# Altium schematic symbol library WR-WTB_2.54mm.SchLib: 34 symbols
Pins are listed as number, name and electrical type; pins without a type are passive.

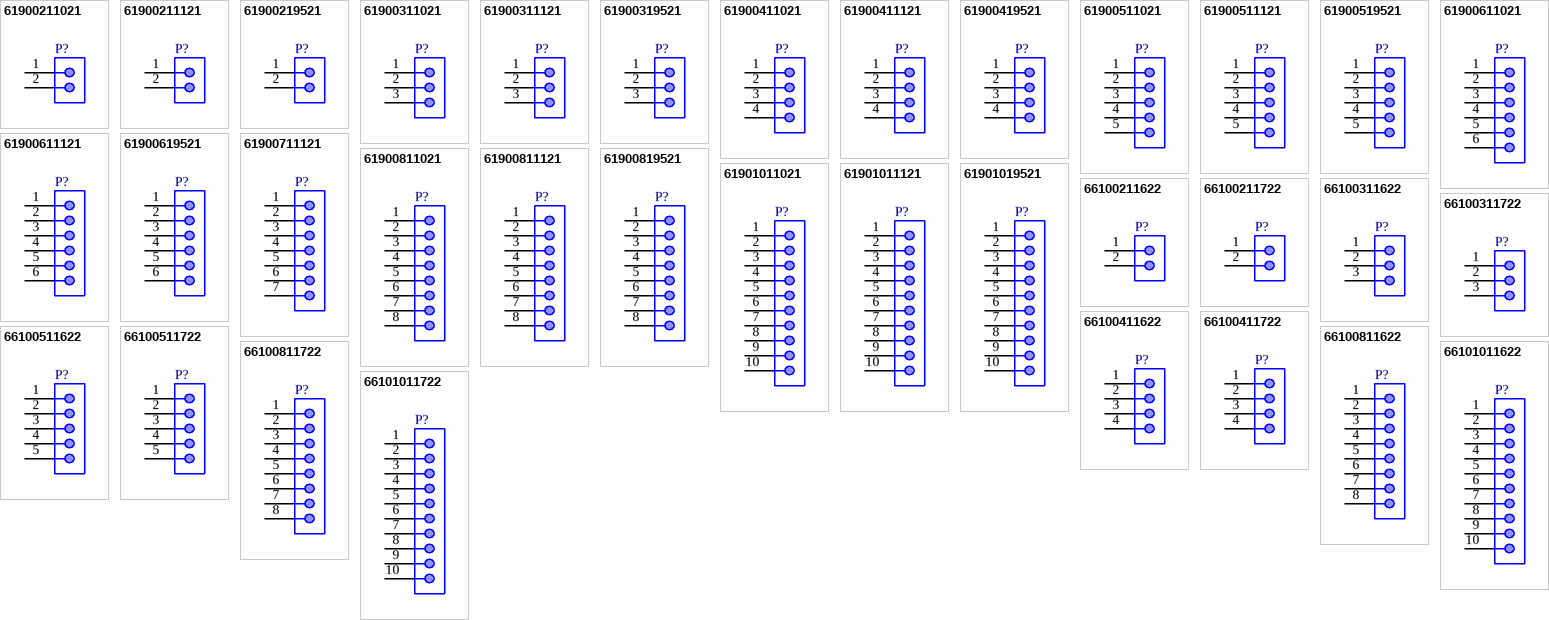
[diagram p0: symbols 61900211021 to 66101011722]

## 61900211021
designator P?
WR-WTB THT Male Left Angled Bottom Locking Header, pitch 2.54mm, 2p; Part Number: 61900211021; Pin Number: 2; Contact Resistance: 20mOhm; Rated Current: 3A; Withstanding Voltage: 1000VAC; Working Voltage: 250VAC; ComponentLink1Description: Manufacturer; ComponentLink1URL: http://www.we-online.de; ComponentLink2Description: Datasheet; ComponentLink2URL: https://www.we-online.com/catalog/datasheet/61900211021.pdf; Pitch: 2.54mm; Published Date: January 2020; Publisher: Wurth Elektronik; Mounting Technology: THT; Packaging: Bag; Operating Temperature: -40 to +105degC; Gender: Male; Type: Right Angled Bottom Locking
footprint 61900211021
pins: 1, 2

## 61900211121
designator P?
WR-WTB THT Male Vertical Locking Header, pitch 2.54mm, 2p; Part Number: 61900211121; Pin Number: 2; Contact Resistance: 20mOhm; Rated Current: 3A; Withstanding Voltage: 1000VAC; Working Voltage: 250VAC; ComponentLink1Description: Manufacturer; ComponentLink1URL: http://www.we-online.de; ComponentLink2Description: Datasheet; ComponentLink2URL: https://www.we-online.com/catalog/datasheet/61900211121.pdf; Pitch: 2.54mm; Published Date: January 2020; Publisher: Wurth Elektronik; Mounting Technology: THT; Packaging: Bag; Operating Temperature: -40 to +105degC; Gender: Male; Type: Vertical
footprint 61900211121
pins: 1, 2

## 61900219521
designator P?
WR-WTB THT Male Right Angled Top Locking Header, pitch 2.54mm, 2p; Part Number: 61900219521; Pin Number: 2; Contact Resistance: 20mOhm; Rated Current: 3A; Withstanding Voltage: 1000VAC; Working Voltage: 250VAC; ComponentLink1Description: Manufacturer; ComponentLink1URL: http://www.we-online.de; ComponentLink2Description: Datasheet; ComponentLink2URL: https://www.we-online.com/catalog/datasheet/61900219521.pdf; Pitch: 2.54mm; Published Date: January 2020; Publisher: Wurth Elektronik; Mounting Technology: THT; Packaging: Bag; Operating Temperature: -40 to +105degC; Gender: Male; Type: Right Angled Top Locking
footprint 61900219521
pins: 1, 2

## 61900311021
designator P?
WR-WTB THT Male Left Angled Bottom Locking Header, pitch 2.54mm, 3p; Part Number: 61900311021; Pin Number: 3; Contact Resistance: 20mOhm; Rated Current: 3A; Withstanding Voltage: 1000VAC; Working Voltage: 250VAC; ComponentLink1Description: Manufacturer; ComponentLink1URL: http://www.we-online.de; ComponentLink2Description: Datasheet; ComponentLink2URL: https://www.we-online.com/catalog/datasheet/61900311021.pdf; Pitch: 2.54mm; Published Date: January 2020; Publisher: Wurth Elektronik; Mounting Technology: THT; Packaging: Bag; Operating Temperature: -40 to +105degC; Gender: Male; Type: Right Angled Bottom Locking
footprint 61900311021
pins: 1, 2, 3

## 61900311121
designator P?
WR-WTB THT Male Vertical Locking Header, pitch 2.54mm, 3p; Part Number: 61900311121; Pin Number: 3; Contact Resistance: 20mOhm; Rated Current: 3A; Withstanding Voltage: 1000VAC; Working Voltage: 250VAC; ComponentLink1Description: Manufacturer; ComponentLink1URL: http://www.we-online.de; ComponentLink2Description: Datasheet; ComponentLink2URL: https://www.we-online.com/catalog/datasheet/61900311121.pdf; Pitch: 2.54mm; Published Date: January 2020; Publisher: Wurth Elektronik; Mounting Technology: THT; Packaging: Bag; Operating Temperature: -40 to +105degC; Gender: Male; Type: Vertical
footprint 61900311121
pins: 1, 2, 3

## 61900319521
designator P?
WR-WTB THT Male Right Angled Top Locking Header, pitch 2.54mm, 3p; Part Number: 61900319521; Pin Number: 3; Contact Resistance: 20mOhm; Rated Current: 3A; Withstanding Voltage: 1000VAC; Working Voltage: 250VAC; ComponentLink1Description: Manufacturer; ComponentLink1URL: http://www.we-online.de; ComponentLink2Description: Datasheet; ComponentLink2URL: https://www.we-online.com/catalog/datasheet/61900319521.pdf; Pitch: 2.54mm; Published Date: January 2020; Publisher: Wurth Elektronik; Mounting Technology: THT; Packaging: Bag; Operating Temperature: -40 to +105degC; Gender: Male; Type: Right Angled Top Locking
footprint 61900319521
pins: 1, 2, 3

## 61900411021
designator P?
WR-WTB THT Male Left Angled Bottom Locking Header, pitch 2.54mm, 4p; Part Number: 61900411021; Pin Number: 4; Contact Resistance: 20mOhm; Rated Current: 3A; Withstanding Voltage: 1000VAC; Working Voltage: 250VAC; ComponentLink1Description: Manufacturer; ComponentLink1URL: http://www.we-online.de; ComponentLink2Description: Datasheet; ComponentLink2URL: https://www.we-online.com/catalog/datasheet/61900411021.pdf; Pitch: 2.54mm; Published Date: January 2020; Publisher: Wurth Elektronik; Mounting Technology: THT; Packaging: Bag; Operating Temperature: -40 to +105degC; Gender: Male; Type: Right Angled Bottom Locking
footprint 61900411021
pins: 1, 2, 3, 4

## 61900411121
designator P?
WR-WTB THT Male Vertical Locking Header, pitch 2.54mm, 4p; Part Number: 61900411121; Pin Number: 4; Contact Resistance: 20mOhm; Rated Current: 3A; Withstanding Voltage: 1000VAC; Working Voltage: 250VAC; ComponentLink1Description: Manufacturer; ComponentLink1URL: http://www.we-online.de; ComponentLink2Description: Datasheet; ComponentLink2URL: https://www.we-online.com/catalog/datasheet/61900411121.pdf; Pitch: 2.54mm; Published Date: January 2020; Publisher: Wurth Elektronik; Mounting Technology: THT; Packaging: Bag; Operating Temperature: -40 to +105degC; Gender: Male; Type: Vertical
footprint 61900411121
pins: 1, 2, 3, 4

## 61900419521
designator P?
WR-WTB THT Male Right Angled Top Locking Header, pitch 2.54mm, 4p; Part Number: 61900419521; Pin Number: 4; Contact Resistance: 20mOhm; Rated Current: 3A; Withstanding Voltage: 1000VAC; Working Voltage: 250VAC; ComponentLink1Description: Manufacturer; ComponentLink1URL: http://www.we-online.de; ComponentLink2Description: Datasheet; ComponentLink2URL: https://www.we-online.com/catalog/datasheet/61900419521.pdf; Pitch: 2.54mm; Published Date: January 2020; Publisher: Wurth Elektronik; Mounting Technology: THT; Packaging: Bag; Operating Temperature: -40 to +105degC; Gender: Male; Type: Right Angled Top Locking
footprint 61900419521
pins: 1, 2, 3, 4

## 61900511021
designator P?
WR-WTB THT Male Left Angled Bottom Locking Header, pitch 2.54mm, 5p; Part Number: 61900511021; Pin Number: 5; Contact Resistance: 20mOhm; Rated Current: 3A; Withstanding Voltage: 1000VAC; Working Voltage: 250VAC; ComponentLink1Description: Manufacturer; ComponentLink1URL: http://www.we-online.de; ComponentLink2Description: Datasheet; ComponentLink2URL: https://www.we-online.com/catalog/datasheet/61900511021.pdf; Pitch: 2.54mm; Published Date: January 2020; Publisher: Wurth Elektronik; Mounting Technology: THT; Packaging: Bag; Operating Temperature: -40 to +105degC; Gender: Male; Type: Right Angled Bottom Locking
footprint 61900511021
pins: 1, 2, 3, 4, 5

## 61900511121
designator P?
WR-WTB THT Male Vertical Locking Header, pitch 2.54mm, 5p; Part Number: 61900511121; Pin Number: 5; Contact Resistance: 20mOhm; Rated Current: 3A; Withstanding Voltage: 1000VAC; Working Voltage: 250VAC; ComponentLink1Description: Manufacturer; ComponentLink1URL: http://www.we-online.de; ComponentLink2Description: Datasheet; ComponentLink2URL: https://www.we-online.com/catalog/datasheet/61900511121.pdf; Pitch: 2.54mm; Published Date: January 2020; Publisher: Wurth Elektronik; Mounting Technology: THT; Packaging: Bag; Operating Temperature: -40 to +105degC; Gender: Male; Type: Vertical
footprint 61900511121
pins: 1, 2, 3, 4, 5

## 61900519521
designator P?
WR-WTB THT Male Right Angled Top Locking Header, pitch 2.54mm, 5p; Part Number: 61900519521; Pin Number: 5; Contact Resistance: 20mOhm; Rated Current: 3A; Withstanding Voltage: 1000VAC; Working Voltage: 250VAC; ComponentLink1Description: Manufacturer; ComponentLink1URL: http://www.we-online.de; ComponentLink2Description: Datasheet; ComponentLink2URL: https://www.we-online.com/catalog/datasheet/61900519521.pdf; Pitch: 2.54mm; Published Date: January 2020; Publisher: Wurth Elektronik; Mounting Technology: THT; Packaging: Bag; Operating Temperature: -40 to +105degC; Gender: Male; Type: Right Angled Top Locking
footprint 61900519521
pins: 1, 2, 3, 4, 5

## 61900611021
designator P?
WR-WTB THT Male Left Angled Bottom Locking Header, pitch 2.54mm, 6p; Part Number: 61900611021; Pin Number: 6; Contact Resistance: 20mOhm; Rated Current: 3A; Withstanding Voltage: 1000VAC; Working Voltage: 250VAC; ComponentLink1Description: Manufacturer; ComponentLink1URL: http://www.we-online.de; ComponentLink2Description: Datasheet; ComponentLink2URL: https://www.we-online.com/catalog/datasheet/61900611021.pdf; Pitch: 2.54mm; Published Date: January 2020; Publisher: Wurth Elektronik; Mounting Technology: THT; Packaging: Bag; Operating Temperature: -40 to +105degC; Gender: Male; Type: Right Angled Bottom Locking
footprint 61900611021
pins: 1, 2, 3, 4, 5, 6

## 61900611121
designator P?
WR-WTB THT Male Vertical Locking Header, pitch 2.54mm, 6p; Part Number: 61900611121; Pin Number: 6; Contact Resistance: 20mOhm; Rated Current: 3A; Withstanding Voltage: 1000VAC; Working Voltage: 250VAC; ComponentLink1Description: Manufacturer; ComponentLink1URL: http://www.we-online.de; ComponentLink2Description: Datasheet; ComponentLink2URL: https://www.we-online.com/catalog/datasheet/61900611121.pdf; Pitch: 2.54mm; Published Date: January 2020; Publisher: Wurth Elektronik; Mounting Technology: THT; Packaging: Bag; Operating Temperature: -40 to +105degC; Gender: Male; Type: Vertical
footprint 61900611121
pins: 1, 2, 3, 4, 5, 6

## 61900619521
designator P?
WR-WTB THT Male Right Angled Top Locking Header, pitch 2.54mm, 6p; Part Number: 61900619521; Pin Number: 6; Contact Resistance: 20mOhm; Rated Current: 3A; Withstanding Voltage: 1000VAC; Working Voltage: 250VAC; ComponentLink1Description: Manufacturer; ComponentLink1URL: http://www.we-online.de; ComponentLink2Description: Datasheet; ComponentLink2URL: https://www.we-online.com/catalog/datasheet/61900619521.pdf; Pitch: 2.54mm; Published Date: January 2020; Publisher: Wurth Elektronik; Mounting Technology: THT; Packaging: Bag; Operating Temperature: -40 to +105degC; Gender: Male; Type: Right Angled Top Locking
footprint 61900619521
pins: 1, 2, 3, 4, 5, 6

## 61900711121
designator P?
WR-WTB THT Male Vertical Locking Header, pitch 2.54mm, 7p; Part Number: 61900711121; Pin Number: 7; Contact Resistance: 20mOhm; Rated Current: 3A; Withstanding Voltage: 1000VAC; Working Voltage: 250VAC; ComponentLink1Description: Manufacturer; ComponentLink1URL: http://www.we-online.de; ComponentLink2Description: Datasheet; ComponentLink2URL: https://www.we-online.com/catalog/datasheet/61900711121.pdf; Pitch: 2.54mm; Published Date: January 2020; Publisher: Wurth Elektronik; Mounting Technology: THT; Packaging: Bag; Operating Temperature: -40 to +105degC; Gender: Male; Type: Vertical
footprint 61900711121
pins: 1, 2, 3, 4, 5, 6, 7

## 61900811021
designator P?
WR-WTB THT Male Left Angled Bottom Locking Header, pitch 2.54mm, 8p; Part Number: 61900811021; Pin Number: 8; Contact Resistance: 20mOhm; Rated Current: 3A; Withstanding Voltage: 1000VAC; Working Voltage: 250VAC; ComponentLink1Description: Manufacturer; ComponentLink1URL: http://www.we-online.de; ComponentLink2Description: Datasheet; ComponentLink2URL: https://www.we-online.com/catalog/datasheet/61900811021.pdf; Pitch: 2.54mm; Published Date: January 2020; Publisher: Wurth Elektronik; Mounting Technology: THT; Packaging: Bag; Operating Temperature: -40 to +105degC; Gender: Male; Type: Right Angled Bottom Locking
footprint 61900811021
pins: 1, 2, 3, 4, 5, 6, 7, 8

## 61900811121
designator P?
WR-WTB THT Male Vertical Locking Header, pitch 2.54mm, 8p; Part Number: 61900811121; Pin Number: 8; Contact Resistance: 20mOhm; Rated Current: 3A; Withstanding Voltage: 1000VAC; Working Voltage: 250VAC; ComponentLink1Description: Manufacturer; ComponentLink1URL: http://www.we-online.de; ComponentLink2Description: Datasheet; ComponentLink2URL: https://www.we-online.com/catalog/datasheet/61900811121.pdf; Pitch: 2.54mm; Published Date: January 2020; Publisher: Wurth Elektronik; Mounting Technology: THT; Packaging: Bag; Operating Temperature: -40 to +105degC; Gender: Male; Type: Vertical
footprint 61900811121
pins: 1, 2, 3, 4, 5, 6, 7, 8

## 61900819521
designator P?
WR-WTB THT Male Right Angled Top Locking Header, pitch 2.54mm, 8p; Part Number: 61900819521; Pin Number: 8; Contact Resistance: 20mOhm; Rated Current: 3A; Withstanding Voltage: 1000VAC; Working Voltage: 250VAC; ComponentLink1Description: Manufacturer; ComponentLink1URL: http://www.we-online.de; ComponentLink2Description: Datasheet; ComponentLink2URL: https://www.we-online.com/catalog/datasheet/61900819521.pdf; Pitch: 2.54mm; Published Date: January 2020; Publisher: Wurth Elektronik; Mounting Technology: THT; Packaging: Bag; Operating Temperature: -40 to +105degC; Gender: Male; Type: Right Angled Top Locking
footprint 61900819521
pins: 1, 2, 3, 4, 5, 6, 7, 8

## 61901011021
designator P?
WR-WTB THT Male Left Angled Bottom Locking Header, pitch 2.54mm, 10p; Part Number: 61901011021; Pin Number: 10; Contact Resistance: 20mOhm; Rated Current: 3A; Withstanding Voltage: 1000VAC; Working Voltage: 250VAC; ComponentLink1Description: Manufacturer; ComponentLink1URL: http://www.we-online.de; ComponentLink2Description: Datasheet; ComponentLink2URL: https://www.we-online.com/catalog/datasheet/61901011021.pdf; Pitch: 2.54mm; Published Date: January 2020; Publisher: Wurth Elektronik; Mounting Technology: THT; Packaging: Bag; Operating Temperature: -40 to +105degC; Gender: Male; Type: Right Angled Bottom Locking
footprint 61901011021
pins: 1, 2, 3, 4, 5, 6, 7, 8, 9, 10

## 61901011121
designator P?
WR-WTB THT Male Vertical Locking Header, pitch 2.54mm, 10p; Part Number: 61901011121; Pin Number: 10; Contact Resistance: 20mOhm; Rated Current: 3A; Withstanding Voltage: 1000VAC; Working Voltage: 250VAC; ComponentLink1Description: Manufacturer; ComponentLink1URL: http://www.we-online.de; ComponentLink2Description: Datasheet; ComponentLink2URL: https://www.we-online.com/catalog/datasheet/61901011121.pdf; Pitch: 2.54mm; Published Date: January 2020; Publisher: Wurth Elektronik; Mounting Technology: THT; Packaging: Bag; Operating Temperature: -40 to +105degC; Gender: Male; Type: Vertical
footprint 61901011121
pins: 1, 2, 3, 4, 5, 6, 7, 8, 9, 10

## 61901019521
designator P?
WR-WTB THT Male Right Angled Top Locking Header, pitch 2.54mm, 10p; Part Number: 61901019521; Pin Number: 10; Contact Resistance: 20mOhm; Rated Current: 3A; Withstanding Voltage: 1000VAC; Working Voltage: 250VAC; ComponentLink1Description: Manufacturer; ComponentLink1URL: http://www.we-online.de; ComponentLink2Description: Datasheet; ComponentLink2URL: https://www.we-online.com/catalog/datasheet/61901019521.pdf; Pitch: 2.54mm; Published Date: January 2020; Publisher: Wurth Elektronik; Mounting Technology: THT; Packaging: Bag; Operating Temperature: -40 to +105degC; Gender: Male; Type: Right Angled Top Locking
footprint 61901019521
pins: 1, 2, 3, 4, 5, 6, 7, 8, 9, 10

## 66100211622
designator P?
WR-WTB Male Vertical Shrouded Header, pitch 2.54mm, 2p; Part Number: 66100211622; Pin Number: 2; Contact Resistance: 20mOhm; Rated Current: 3A; Withstanding Voltage: 500VAC; Working Voltage: 50VAC; ComponentLink1Description: Manufacturer; ComponentLink1URL: http://www.we-online.de; ComponentLink2Description: Datasheet; ComponentLink2URL: https://www.we-online.com/catalog/datasheet/66100211622.pdf; Pitch: 2.54mm; Published Date: January 2020; Publisher: Wurth Elektronik; Mounting Technology: THT; Packaging: Box; Operating Temperature: -40 to +125degC; Gender: Male; Type: Vertical
footprint 66100211622
pins: 1, 2

## 66100211722
designator P?
WR-WTB THT Male Right Angled Shrouded Header, pitch 2.54mm, 2p; Part Number: 66100211722; Pin Number: 2; Contact Resistance: 20mOhm; Rated Current: 3A; Withstanding Voltage: 500VAC; Working Voltage: 50VAC; ComponentLink1Description: Manufacturer; ComponentLink1URL: http://www.we-online.de; ComponentLink2Description: Datasheet; ComponentLink2URL: https://www.we-online.com/catalog/datasheet/66100211722.pdf; Pitch: 2.54mm; Published Date: January 2020; Publisher: Wurth Elektronik; Mounting Technology: THT; Packaging: Box; Operating Temperature: -40 to +125degC; Gender: Male; Type: Right Angled
footprint 66100211722
pins: 1, 2

## 66100311622
designator P?
WR-WTB Male Vertical Shrouded Header, pitch 2.54mm, 3p; Part Number: 66100311622; Pin Number: 3; Contact Resistance: 20mOhm; Rated Current: 3A; Withstanding Voltage: 500VAC; Working Voltage: 50VAC; ComponentLink1Description: Manufacturer; ComponentLink1URL: http://www.we-online.de; ComponentLink2Description: Datasheet; ComponentLink2URL: https://www.we-online.com/catalog/datasheet/66100311622.pdf; Pitch: 2.54mm; Published Date: January 2020; Publisher: Wurth Elektronik; Mounting Technology: THT; Packaging: Box; Operating Temperature: -40 to +125degC; Gender: Male; Type: Vertical
footprint 66100311622
pins: 1, 2, 3

## 66100311722
designator P?
WR-WTB THT Male Right Angled Shrouded Header, pitch 2.54mm, 3p; Part Number: 66100311722; Pin Number: 3; Contact Resistance: 20mOhm; Rated Current: 3A; Withstanding Voltage: 500VAC; Working Voltage: 50VAC; ComponentLink1Description: Manufacturer; ComponentLink1URL: http://www.we-online.de; ComponentLink2Description: Datasheet; ComponentLink2URL: https://www.we-online.com/catalog/datasheet/66100311722.pdf; Pitch: 2.54mm; Published Date: January 2020; Publisher: Wurth Elektronik; Mounting Technology: THT; Packaging: Box; Operating Temperature: -40 to +125degC; Gender: Male; Type: Right Angled
footprint 66100311722
pins: 1, 2, 3

## 66100411622
designator P?
WR-WTB Male Vertical Shrouded Header, pitch 2.54mm, 4p; Part Number: 66100411622; Pin Number: 4; Contact Resistance: 20mOhm; Rated Current: 3A; Withstanding Voltage: 500VAC; Working Voltage: 50VAC; ComponentLink1Description: Manufacturer; ComponentLink1URL: http://www.we-online.de; ComponentLink2Description: Datasheet; ComponentLink2URL: https://www.we-online.com/catalog/datasheet/66100411622.pdf; Pitch: 2.54mm; Published Date: January 2020; Publisher: Wurth Elektronik; Mounting Technology: THT; Packaging: Box; Operating Temperature: -40 to +125degC; Gender: Male; Type: Vertical
footprint 66100411622
pins: 1, 2, 3, 4

## 66100411722
designator P?
WR-WTB THT Male Right Angled Shrouded Header, pitch 2.54mm, 4p; Part Number: 66100411722; Pin Number: 4; Contact Resistance: 20mOhm; Rated Current: 3A; Withstanding Voltage: 500VAC; Working Voltage: 50VAC; ComponentLink1Description: Manufacturer; ComponentLink1URL: http://www.we-online.de; ComponentLink2Description: Datasheet; ComponentLink2URL: https://www.we-online.com/catalog/datasheet/66100411722.pdf; Pitch: 2.54mm; Published Date: January 2020; Publisher: Wurth Elektronik; Mounting Technology: THT; Packaging: Box; Operating Temperature: -40 to +125degC; Gender: Male; Type: Right Angled
footprint 66100411722
pins: 1, 2, 3, 4

## 66100511622
designator P?
WR-WTB Male Vertical Shrouded Header, pitch 2.54mm, 5p; Part Number: 66100511622; Pin Number: 5; Contact Resistance: 20mOhm; Rated Current: 3A; Withstanding Voltage: 500VAC; Working Voltage: 50VAC; ComponentLink1Description: Manufacturer; ComponentLink1URL: http://www.we-online.de; ComponentLink2Description: Datasheet; ComponentLink2URL: https://www.we-online.com/catalog/datasheet/66100511622.pdf; Pitch: 2.54mm; Published Date: January 2020; Publisher: Wurth Elektronik; Mounting Technology: THT; Packaging: Box; Operating Temperature: -40 to +125degC; Gender: Male; Type: Vertical
footprint 66100511622
pins: 1, 2, 3, 4, 5

## 66100511722
designator P?
WR-WTB THT Male Right Angled Shrouded Header, pitch 2.54mm, 5p; Part Number: 66100511722; Pin Number: 5; Contact Resistance: 20mOhm; Rated Current: 3A; Withstanding Voltage: 500VAC; Working Voltage: 50VAC; ComponentLink1Description: Manufacturer; ComponentLink1URL: http://www.we-online.de; ComponentLink2Description: Datasheet; ComponentLink2URL: https://www.we-online.com/catalog/datasheet/66100511722.pdf; Pitch: 2.54mm; Published Date: January 2020; Publisher: Wurth Elektronik; Mounting Technology: THT; Packaging: Box; Operating Temperature: -40 to +125degC; Gender: Male; Type: Right Angled
footprint 66100511722
pins: 1, 2, 3, 4, 5

## 66100811622
designator P?
WR-WTB Male Vertical Shrouded Header, pitch 2.54mm, 8p; Part Number: 66100811622; Pin Number: 8; Contact Resistance: 20mOhm; Rated Current: 3A; Withstanding Voltage: 500VAC; Working Voltage: 50VAC; ComponentLink1Description: Manufacturer; ComponentLink1URL: http://www.we-online.de; ComponentLink2Description: Datasheet; ComponentLink2URL: https://www.we-online.com/catalog/datasheet/66100811622.pdf; Pitch: 2.54mm; Published Date: January 2020; Publisher: Wurth Elektronik; Mounting Technology: THT; Packaging: Box; Operating Temperature: -40 to +125degC; Gender: Male; Type: Vertical
footprint 66100811622
pins: 1, 2, 3, 4, 5, 6, 7, 8

## 66100811722
designator P?
WR-WTB THT Male Right Angled Shrouded Header, pitch 2.54mm, 8p; Part Number: 66100811722; Pin Number: 8; Contact Resistance: 20mOhm; Rated Current: 3A; Withstanding Voltage: 500VAC; Working Voltage: 50VAC; ComponentLink1Description: Manufacturer; ComponentLink1URL: http://www.we-online.de; ComponentLink2Description: Datasheet; ComponentLink2URL: https://www.we-online.com/catalog/datasheet/66100811722.pdf; Pitch: 2.54mm; Published Date: January 2020; Publisher: Wurth Elektronik; Mounting Technology: THT; Packaging: Box; Operating Temperature: -40 to +125degC; Gender: Male; Type: Right Angled
footprint 66100811722
pins: 1, 2, 3, 4, 5, 6, 7, 8

## 66101011622
designator P?
WR-WTB Male Vertical Shrouded Header, pitch 2.54mm, 10p; Part Number: 66101011622; Pin Number: 10; Contact Resistance: 20mOhm; Rated Current: 3A; Withstanding Voltage: 500VAC; Working Voltage: 50VAC; ComponentLink1Description: Manufacturer; ComponentLink1URL: http://www.we-online.de; ComponentLink2Description: Datasheet; ComponentLink2URL: https://www.we-online.com/catalog/datasheet/66101011622.pdf; Pitch: 2.54mm; Published Date: January 2020; Publisher: Wurth Elektronik; Mounting Technology: THT; Packaging: Box; Operating Temperature: -40 to +125degC; Gender: Male; Type: Vertical
footprint 66101011622
pins: 1, 2, 3, 4, 5, 6, 7, 8, 9, 10

## 66101011722
designator P?
WR-WTB THT Male Right Angled Shrouded Header, pitch 2.54mm, 10p; Part Number: 66101011722; Pin Number: 10; Contact Resistance: 20mOhm; Rated Current: 3A; Withstanding Voltage: 500VAC; Working Voltage: 50VAC; ComponentLink1Description: Manufacturer; ComponentLink1URL: http://www.we-online.de; ComponentLink2Description: Datasheet; ComponentLink2URL: https://www.we-online.com/catalog/datasheet/66101011722.pdf; Pitch: 2.54mm; Published Date: January 2020; Publisher: Wurth Elektronik; Mounting Technology: THT; Packaging: Box; Operating Temperature: -40 to +125degC; Gender: Male; Type: Right Angled
footprint 66101011722
pins: 1, 2, 3, 4, 5, 6, 7, 8, 9, 10